# EAGLE library part AD7992 (library analog_devices_gaui)
16-Bit DAC with Serial Data Interface
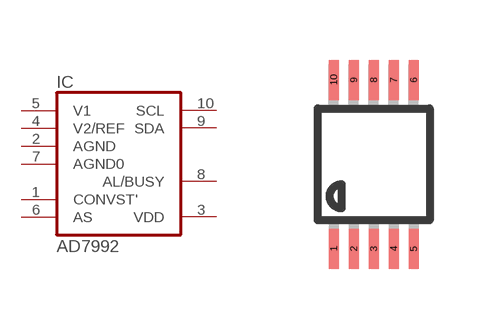
[diagram p3: symbol with the pads of MSOP10; footprint MSOP10]

Designator prefix IC

## AD7992  [MSOP10]
1  CONVST'  in
2  AGND  pwr
3  VDD  pwr
4  V2/REF  in
5  V1  in
6  AS  in
7  AGND0  pwr
8  AL/BUSY  out
9  SDA  out
10  SCL  out

## Footprint MSOP10 (pad centres in mm)
10-Lead Mini Small Outline Package [MSOP] (RM-10) Source: http://www.analog.com/UploadedFiles/Data_Sheets/35641221898805SSM2167_b.pdf COMPLIANT TO JEDEC STANDARDS MO-187BA
smd 0.25 x 1: 1 -1,-2.113; 2 -0.5,-2.113; 3 0,-2.113; 4 0.5,-2.113; 5 1,-2.113; 6 1,2.113; 7 0.5,2.113; 8 0,2.113; 9 -0.5,2.113; 10 -1,2.113